# EAGLE library part PCB_ERKEK_CONNECTOR (library deneyap_board_erkek_pcb_lib)
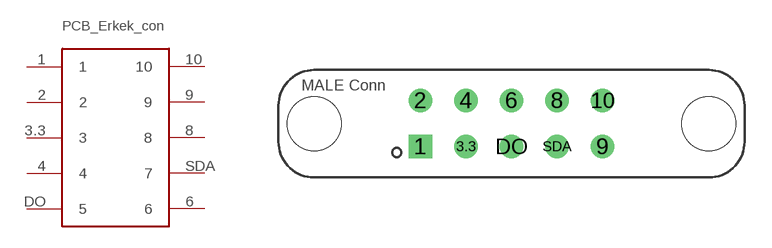
[diagram p0: symbol with the pads of PCB_ERKEK_CONNECTOR; footprint PCB_ERKEK_CONNECTOR]

Designator prefix -

## PCB_ERKEK_CONNECTORA  [PCB_ERKEK_CONNECTOR]
1  1
2  2
3.3  3
4  4
6  6
8  8
9  9
10  10
DO  5
SDA  7

## Footprint PCB_ERKEK_CONNECTOR (pad centres in mm)
drill 0.8 square: 1 7.92,1.73
drill 0.8: 2 7.92,4.3; 3.3 10.46,1.73; 4 10.46,4.3; 6 13,4.3; 8 15.54,4.3; 9 18.08,1.73; 10 18.08,4.3; DO 13,1.73; SDA 15.54,1.73
hole 3 at 2,3
hole 3 at 24,3